# EAGLE library part IMU_LSM6DSOX (library custom)
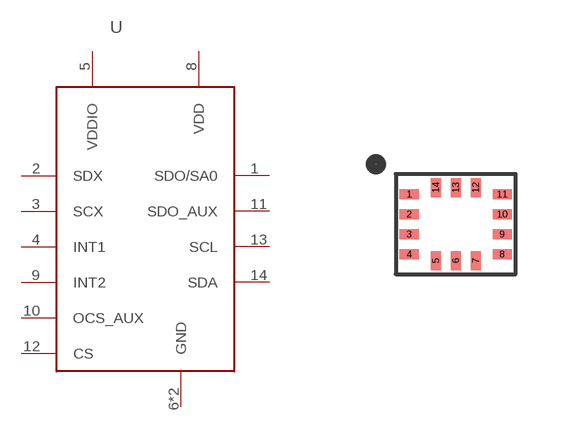
[diagram p0: symbol with the pads of LSM6DS0XTR; footprint LSM6DS0XTR]

Designator prefix U

## IMU_LSM6DSOX-LSM6DSOXTR (CREATOR: CHRISTOPHER VU; DIST: Digikey; DISTPN: 497-18367-1-ND)  [LSM6DS0XTR]
1  SDO/SA0
2  SDX
3  SCX
4  INT1
5  VDDIO
6  GND
7  GND
8  VDD
9  INT2
10  OCS_AUX
11  SDO_AUX
12  CS
13  SCL
14  SDA

## Footprint LSM6DS0XTR (pad centres in mm)
smd 0.475 x 0.25: 1 -1.163,0.75; 2 -1.163,0.25; 3 -1.163,-0.25; 4 -1.163,-0.75; 8 1.163,-0.75; 9 1.163,-0.25; 10 1.163,0.25; 11 1.163,0.75
smd 0.25 x 0.475: 5 -0.5,-0.912; 6 0,-0.912; 7 0.5,-0.912; 12 0.5,0.912; 13 0,0.912; 14 -0.5,0.912